# Altium integrated library RK808-D.IntLib: 1 symbol
Pins are listed as number, name and electrical type; pins without a type are passive.

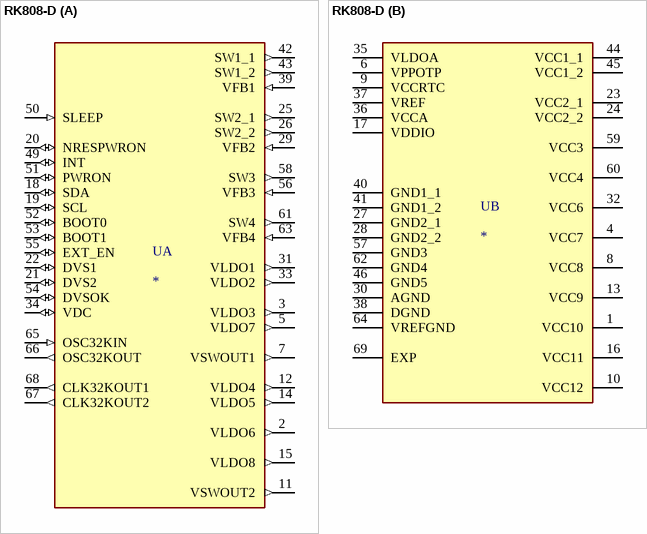
[diagram p0: symbol RK808-D]

## RK808-D
designator U
Power Management System; MF: Fuzhou Rockchip Electronics Co; MP: RK808-D; Value: *; SnapEDA_Link: https://www.snapeda.com/parts/RK808-D/Fuzhou%20Rockchip%20Electronics%20Co/view-part/1600581/?ref=snap; Price: None; Availability: Unavailable; Package: None
footprint QFN35P700X700X80-69N
part A pins: 2 VLDO6 (out), 3 VLDO3 (out), 5 VLDO7 (out), 7 VSWOUT1 (out), 11 VSWOUT2 (out), 12 VLDO4 (out), 14 VLDO5 (out), 15 VLDO8 (out), 18 SDA (io), 19 SCL (io), 20 NRESPWRON (io), 21 DVS2 (io), 22 DVS1 (io), 25 SW2_1 (out), 26 SW2_2 (out), 29 VFB2 (in), 31 VLDO1 (out), 33 VLDO2 (out), 34 VDC (io), 39 VFB1 (in), 42 SW1_1 (out), 43 SW1_2 (out), 49 INT (io), 50 SLEEP (in), 51 PWRON (io), 52 BOOT0 (io), 53 BOOT1 (io), 54 DVSOK (io), 55 EXT_EN (io), 56 VFB3 (in), 58 SW3 (out), 61 SW4 (out), 63 VFB4 (in), 65 OSC32KIN (in), 66 OSC32KOUT (out), 67 CLK32KOUT2 (out), 68 CLK32KOUT1 (out)
part B pins: 1 VCC10 (power), 4 VCC7 (power), 6 VPPOTP (power), 8 VCC8 (power), 9 VCCRTC (power), 10 VCC12 (power), 13 VCC9 (power), 16 VCC11 (power), 17 VDDIO (power), 23 VCC2_1 (power), 24 VCC2_2 (power), 27 GND2_1 (power), 28 GND2_2 (power), 30 AGND (power), 32 VCC6 (power), 35 VLDOA (power), 36 VCCA (power), 37 VREF (power), 38 DGND (power), 40 GND1_1 (power), 41 GND1_2 (power), 44 VCC1_1 (power), 45 VCC1_2 (power), 46 GND5 (power), 57 GND3 (power), 59 VCC3 (power), 60 VCC4 (power), 62 GND4 (power), 64 VREFGND (power), 69 EXP (power)